# EAGLE library part BPRV2125AM (library 3D_MIG_Controller)
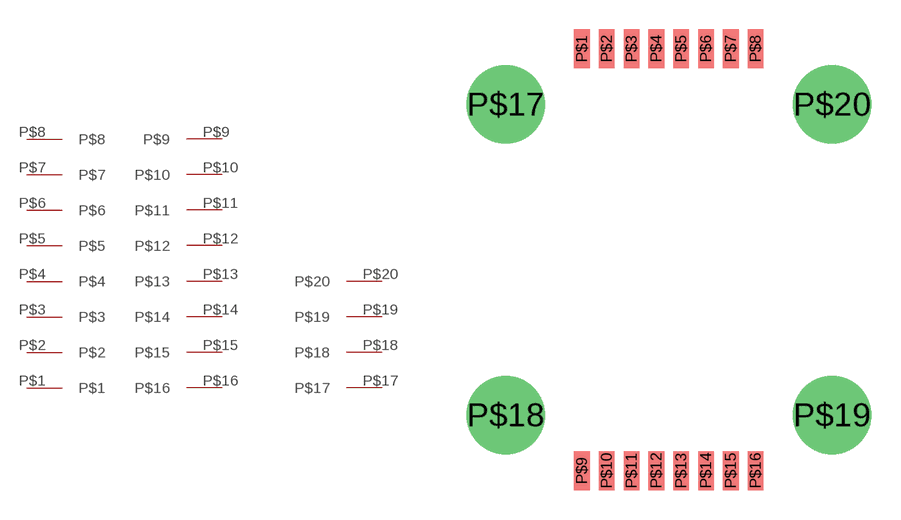
[diagram p35: symbol with the pads of BPRV2125AM; footprint BPRV2125AM]

Designator prefix -

## BPRV2125AM  [BPRV2125AM]
P$1  P$1
P$2  P$2
P$3  P$3
P$4  P$4
P$5  P$5
P$6  P$6
P$7  P$7
P$8  P$8
P$9  P$9
P$10  P$10
P$11  P$11
P$12  P$12
P$13  P$13
P$14  P$14
P$15  P$15
P$16  P$16
P$17  P$17
P$18  P$18
P$19  P$19
P$20  P$20

## Footprint BPRV2125AM (pad centres in mm)
smd 0.8 x 2: P$1 -4.45,10.8; P$2 -3.18,10.8; P$3 -1.91,10.8; P$4 -0.64,10.8; P$5 0.63,10.8; P$6 1.9,10.8; P$7 3.17,10.8; P$8 4.44,10.8; P$9 -4.45,-10.8; P$10 -3.18,-10.8; P$11 -1.91,-10.8; P$12 -0.64,-10.8; P$13 0.63,-10.8; P$14 1.9,-10.8; P$15 3.17,-10.8; P$16 4.44,-10.8
drill 3: P$17 -8.35,7.955; P$18 -8.35,-7.955; P$19 8.35,-7.955; P$20 8.35,7.955